# Altium schematic symbol library 15EDGRC-3.81.SchLib: 11 symbols
Pins are listed as number, name and electrical type; pins without a type are passive.

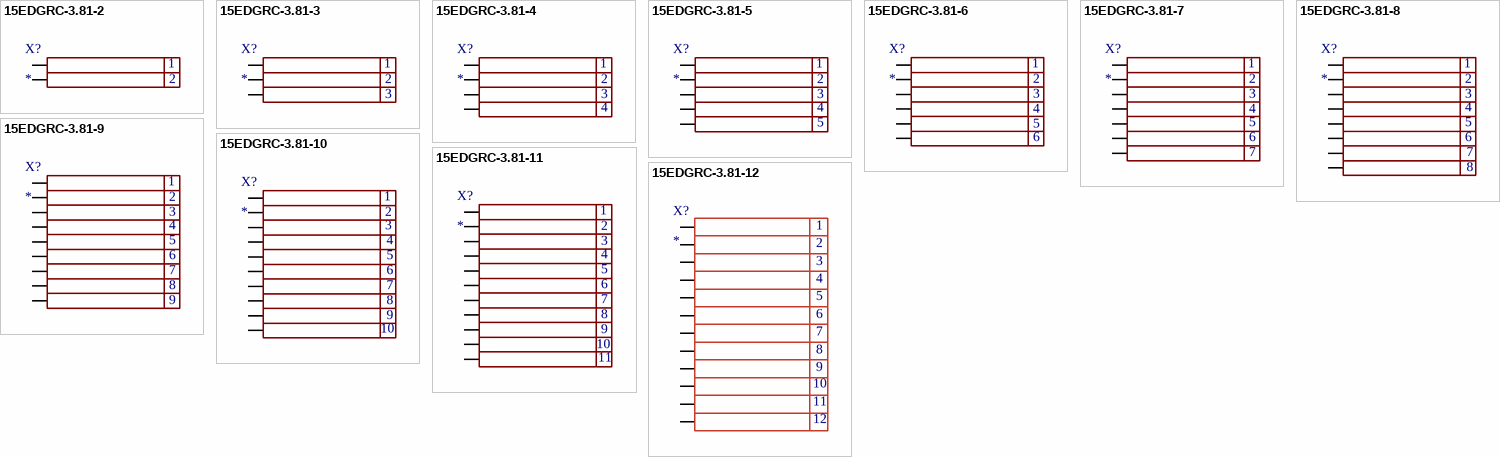
[diagram p0: symbols 15EDGRC-3.81-2 to 15EDGRC-3.81-12]

## 15EDGRC-3.81-2
designator X?
footprint 15EDGRC-3.81-2
pins: 1, 2

## 15EDGRC-3.81-3
designator X?
footprint 15EDGRC-3.81-3
pins: 1, 2, 3

## 15EDGRC-3.81-4
designator X?
footprint 15EDGRC-3.81-4
pins: 1, 2, 3, 4

## 15EDGRC-3.81-5
designator X?
footprint 15EDGRC-3.81-5
pins: 1, 2, 3, 4, 5

## 15EDGRC-3.81-6
designator X?
footprint 15EDGRC-3.81-6
pins: 1, 2, 3, 4, 5, 6

## 15EDGRC-3.81-7
designator X?
footprint 15EDGRC-3.81-7
pins: 1, 2, 3, 4, 5, 6, 7

## 15EDGRC-3.81-8
designator X?
footprint 15EDGRC-3.81-8
pins: 1, 2, 3, 4, 5, 6, 7, 8

## 15EDGRC-3.81-9
designator X?
footprint 15EDGRC-3.81-9
pins: 1, 2, 3, 4, 5, 6, 7, 8, 9

## 15EDGRC-3.81-10
designator X?
footprint 15EDGRC-3.81-10
pins: 1, 2, 3, 4, 5, 6, 7, 8, 9, 10

## 15EDGRC-3.81-11
designator X?
footprint 15EDGRC-3.81-11
pins: 1, 2, 3, 4, 5, 6, 7, 8, 9, 10, 11

## 15EDGRC-3.81-12
designator X?
footprint 15EDGRC-3.81-12
pins: 1, 2, 3, 4, 5, 6, 7, 8, 9, 10, 11, 12